# Altium schematic symbol library DZ_LIB.SchLib: 102 symbols
Pins are listed as number, name and electrical type; pins without a type are passive.

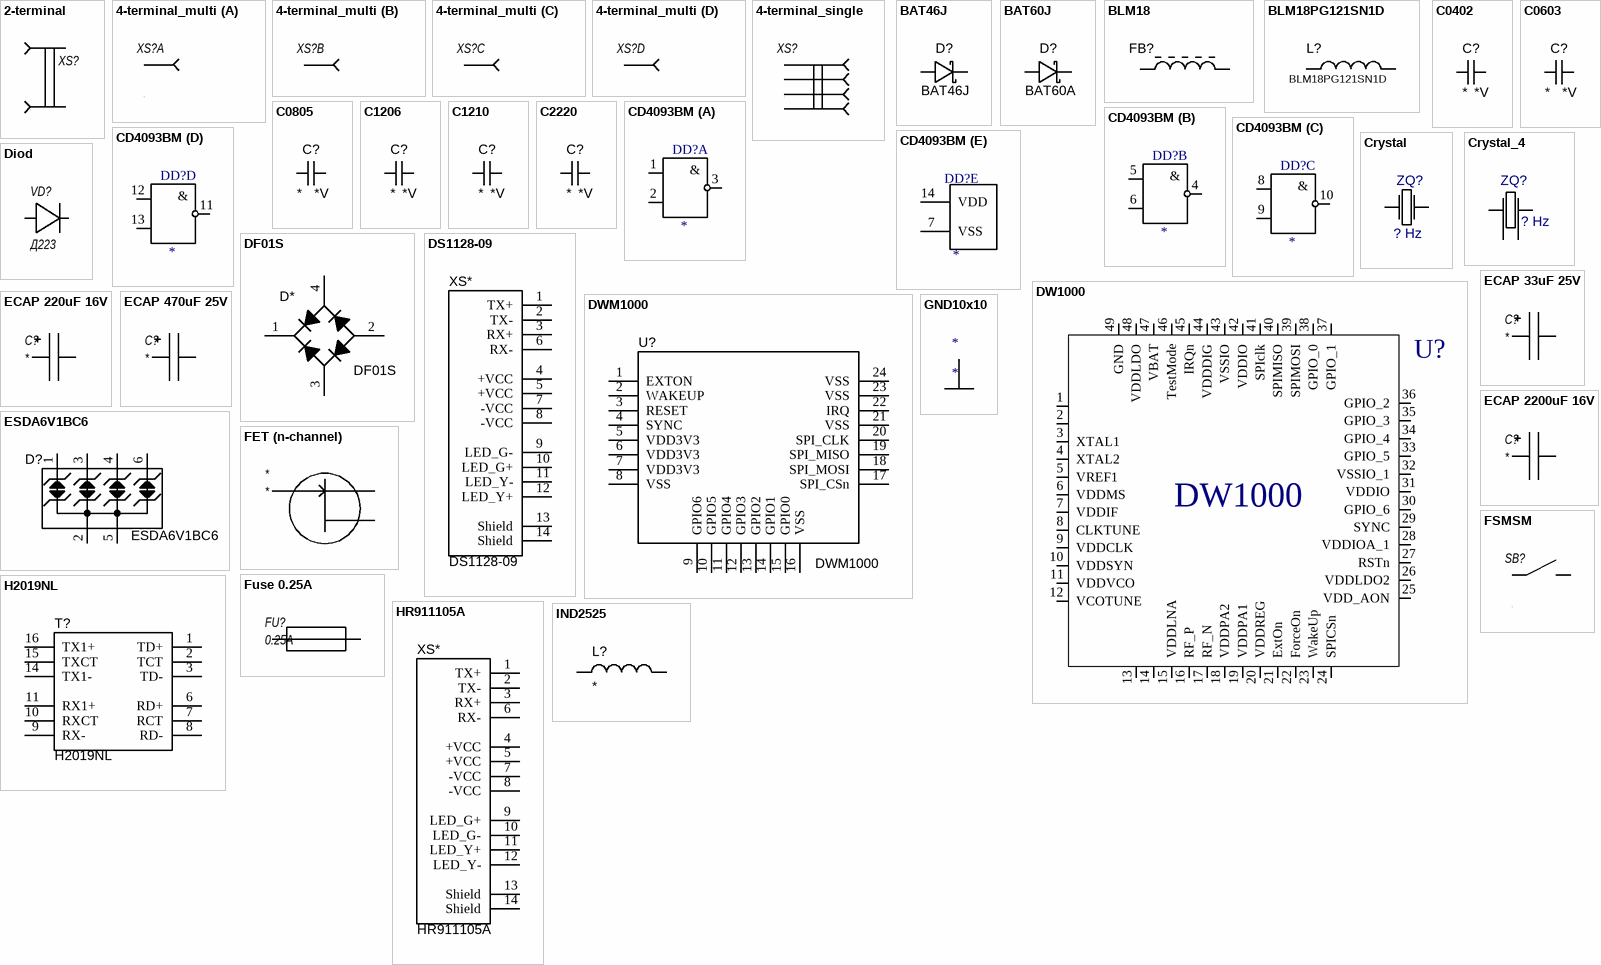
[diagram p0: symbols 2-terminal to IND2525]

## 2-terminal
designator XS?  (value not drawn)
footprint SCREW-5.0-2WAYS_V (Socket, Screw Terminal Block, 2-Leads, Pitch 5mm, 90 Degree Angle, Through-Hole)
pins: 1, 2

## 4-terminal_multi
designator XS?  (value not drawn)
footprint SCREW-5.0-4WAYS_V (Socket, Screw Terminal Block, 2-Leads, Pitch 5mm, 90 Degree Angle, Through-Hole)
part A pins: 1
part B pins: 2
part C pins: 3
part D pins: 4

## 4-terminal_single
designator XS?  (value not drawn)
footprint SCREW-5.0-4WAYS_V (Socket, Screw Terminal Block, 2-Leads, Pitch 5mm, 90 Degree Angle, Through-Hole)
pins: 1, 2, 3, 4

## BAT46J
designator D?
DIODE SCHOTTKY 100V 150MA SOD323
footprint SOD-323-2 (SMD, 2-Leads, Body 1.66x1.28mm)
pins: 1 A, 2 K

## BAT60J
designator D?, comment BAT60A
DIODE SCHOTTKY 10V 3A SOD323
footprint SOD-323-2 (SMD, 2-Leads, Body 1.66x1.28mm)
pins: 1 A, 2 K

## BLM18
designator FB?, comment BLM18A*  (value not drawn)
Ferrite Bead 0603; Resistance: * Ohm; DC Current Rating: * A
footprint BLM18 (MURATA, Chip Ferrite Bead, 2-Leads, Body 1.6x0.8mm, Height 0.95mm, Flow)
pins: 1, 2

## BLM18PG121SN1D
designator L?
FERRITE BEAD 120 OHM 0603 (Murata)
footprint SMD0603 (Chip Resistor, Body 1.6x0.8mm, IPC Medium Density)
pins: 1, 2

## C0402
designator C?  Voltage: *V  (hidden comment: *)
Model: *; Value: *
footprint C0402 (Chip Capacitor, 2-Leads, Body 1.05x0.55mm, IPC Medium Density)
pins: 1, 2

## C0603
designator C?  Voltage: *V  (hidden comment: *)
Model: *; Value: *
footprint C0603 (Chip Capacitor, Body 1.6x0.8mm, Height 1.0mm, IPC Medium Density)
pins: 1, 2

## C0805
designator C?  Voltage: *V  (hidden comment: *)
Model: *; Value: *
footprint C0805 (Chip Capacitor, 2-Leads, Body 2.00x1.25mm, IPC Medium Density)
pins: 1, 2

## C1206
designator C?  Voltage: *V  (hidden comment: *)
Model: *; Value: *
footprint C1206(3216) (Chip Capacitor, Body 3.2x1.6mm, Height 1.1mm, IPC Medium Density)
pins: 1, 2

## C1210
designator C?  Voltage: *V  (hidden comment: *)
Model: *; Value: *
footprint C1210 (Chip Capacitor, 2-Leads, Body 3.5x2.7mm, IPC Medium Density)
pins: 1, 2

## C2220
designator C?  Voltage: *V  (hidden comment: *)
Model: *; Value: *
footprint C2220 (Chip Capacitor, Body 5.7x5.0mm, Height 2.3mm, IPC Medium Density)
pins: 1, 2

## CD4093BM
designator DD?
TI-NAND-4-2IN-14
footprint D0014A_N (SOIC, 14-Leads, Body 8.75x4mm, Pitch 1.27mm, IPC Medium Density)
part A pins: 1, 2, 3
part B pins: 4, 5, 6
part C pins: 8, 9, 10
part D pins: 11, 12, 13
part E pins: 7 VSS (power), 14 VDD (power)
part A text: &
part B text: &
part C text: &
part D text: &

## Crystal
designator ZQ?, comment ? Hz
SMT-2 Crystal Rezonator
footprint DST210A
pins: 1 OSC1, 2 OSC2

## Crystal_4
designator ZQ?, comment ? Hz
SMT-4 Crystal Rezonator
footprint NX3225
pins: 1, 2, 3, 4

## DF01S
designator D*
BRIDGE RECT 1P 100V 1.5A 4SDIP
footprint SDIP-4 (SMD, 4-Leads, Body 8.28x6.35mm, Pitch 5.1mm)
pins: 1 K, 2 A, 3 C, 4 C

## Diod
designator VD?, comment Д223
pins: 1 A, 2 K

## DS1128-09
designator XS*
Single Port RJ45 Connector
footprint RJ45-AMPH (THD, 12-Leads, Body 16.51x15.75mm)
pins: 1 TX+, 2 TX-, 3 RX+, 4 +VCC, 5 +VCC, 6 RX-, 7 -VCC, 8 -VCC, 9 LED_G-, 10 LED_G+, 11 LED_Y-, 12 LED_Y+, 13 Shield, 14 Shield

## DW1000
designator U?, comment DW1000 IC  (value not drawn)
UWB DW1000; Part Number: DW1000_QFN; Manufacturer: Decawave Ltd.; Component Code: n/a; Component Type: Standard; Cost: *; Footprint: QFN_48; ComponentLink1Description: Datasheet Link
footprint QFN-48 (Footprint not found)
pins: 1, 2, 3 XTAL1, 4 XTAL2, 5 VREF1, 6 VDDMS, 7 VDDIF, 8 CLKTUNE, 9 VDDCLK, 10 VDDSYN, 11 VDDVCO, 12 VCOTUNE, 13, 14, 15 VDDLNA, 16 RF_P, 17 RF_N, 18 VDDPA2, 19 VDDPA1, 20 VDDREG, 21 ExtOn, 22 ForceOn, 23 WakeUp, 24 SPICSn, 25 VDD_AON, 26 VDDLDO2, 27 RSTn, 28 VDDIOA_1, 29 SYNC, 30 GPIO_6, 31 VDDIO, 32 VSSIO_1, 33 GPIO_5, 34 GPIO_4, 35 GPIO_3, 36 GPIO_2, 37 GPIO_1, 38 GPIO_0, 39 SPIMOSI, 40 SPIMISO, 41 SPIclk, 42 VDDIO, 43 VSSIO, 44 VDDDIG, 45 IRQn, 46 TestMode, 47 VBAT, 48 VDDLDO, 49 GND

## DWM1000
designator U?
MOD IEEE802.15.4-2011 UWB TXRX; Manufacturer: Decawave Limited; Frequency: 3.5GHz ~ 6.5GHz; Data Rate: 6.8Mbps; Serial Interfaces: SPI; Antenna Type: Integrated, Chip; Voltage - Supply: 2.8 V ~ 3.6 V; Current - Receiving: 64mA; Current - Transmitting: 31mA; Supplier 1: Digi-Key; Manufacturer Part Number: DWM1000; RoHS: RoHS Compliant; Category: RF/IF and RFID; Stock 1: 1028; Pricing 1: 1=32.16, 10=26.704, 100=24.24, 250=22.51296 (USD); Packaging: Cut Tape (CT); RF Family/Standard: 802.15.4; Protocol: -; Modulation: -; Power - Output: -; Sensitivity: -; Memory Size: -; Mounting Type: Surface Mount; Operating Temperature: -40°C ~ 85°C; Package / Case: Module; ComponentLink1URL: http://www.decawave.com/sites/default/files/product-pdf/dwm1000-product-brief.pdf; ComponentLink1Description: http://www.decawave.com/sites/default/files/product-pdf/dwm1000-product-brief.pdf; Supplier Part Number 1: 1479-1002-1-ND
footprint DWM1000
pins: 1 EXTON, 2 WAKEUP, 3 RESET, 4 SYNC, 5 VDD3V3, 6 VDD3V3, 7 VDD3V3, 8 VSS, 9 GPIO6, 10 GPIO5, 11 GPIO4, 12 GPIO3, 13 GPIO2, 14 GPIO1, 15 GPIO0, 16 VSS, 17 SPI_CSn, 18 SPI_MOSI, 19 SPI_MISO, 20 SPI_CLK, 21 VSS, 22 IRQ, 23 VSS, 24 VSS

## ECAP 33uF 25V
designator C?
footprint CAPPR55-250-1120X630X1220 (THD, 2-Leads, Dia 6.3mm, Body Length 11.2mm)
pins: 1, 2

## ECAP 220uF 16V
designator C?
footprint CAPPR55-250-1120X630X1220 (THD, 2-Leads, Dia 6.3mm, Body Length 11.2mm)
pins: 1, 2

## ECAP 470uF 25V
designator C?
footprint K50-35 (Jamicon 470uF 25V)
pins: 1, 2

## ECAP 2200uF 16V
designator C?
footprint CAPPR65-500-2000X1250X2200 (THD, 2-Leads, Dia 12.5mm, Body Length 20mm)
pins: 1, 2

## ESDA6V1BC6
designator D?
4-line ESD protection; Manuf_1: STM; Manuf_Part_1: ESDA5V3L; Ref St: 9179034; Provided: ST; ECCN_US/EU: EAR99/NEC; Distrib: ST; Order: ESDA5V3L; Ordered by: STM
footprint SOT-23-6 (SOT23, 6-Leads, Body 2.9x1.7mm, Pitch 0.95mm, Lead Span 2.8mm, IPC Medium Density)
pins: 1 IO1, 2 IO2, 3 GND, 4 IO3, 5 IO4, 6 NC

## FET (n-channel)
designator *
pins: 1 Gate, 2 Drain, 3 Source

## FSMSM
designator SB?
SMD Switch 2-Leads
footprint FSMSM-2 (Switch SMD, 2-Leads, Body 6x3.5mm, Pitch 9.19mm)
pins: 1, 2

## Fuse 0.25A
designator FU?, comment 0.25A
footprint Fuse
pins: 1, 2

## GND10x10
designator *
footprint GND10x10 (GND)
pins: 0

## H2019NL
designator T?
MODULE XFRMR VOIP SGL LAN 16SOIC; MF: Pulse Electronics; Package: SOIC-16 Pulse; Availability: Unavailable; MP: H2019NL; Price: None; SnapEDA_Link: https://www.snapeda.com/parts/H2019NL/Pulse%20Electronics%20Network/view-part/?ref=snap; Value: *
footprint H2019NL
pins: 1 TD+, 2 TCT, 3 TD-, 6 RD+, 7 RCT, 8 RD-, 9 RX-, 10 RXCT, 11 RX1+, 14 TX1-, 15 TXCT, 16 TX1+

## HR911105A
designator XS*
Single Port RJ45 Connector
footprint HR911105A (HANRUN RJ45)
pins: 1 TX+, 2 TX-, 3 RX+, 4 +VCC, 5 +VCC, 6 RX-, 7 -VCC, 8 -VCC, 9 LED_G+, 10 LED_G-, 11 LED_Y+, 12 LED_Y-, 13 Shield, 14 Shield

## IND2525
designator L?
2.2u 2525 3.3A; Model: LQH66SN2R2M; Value: *
footprint IND2525 (SMD, 2-Leads)
pins: 1, 2

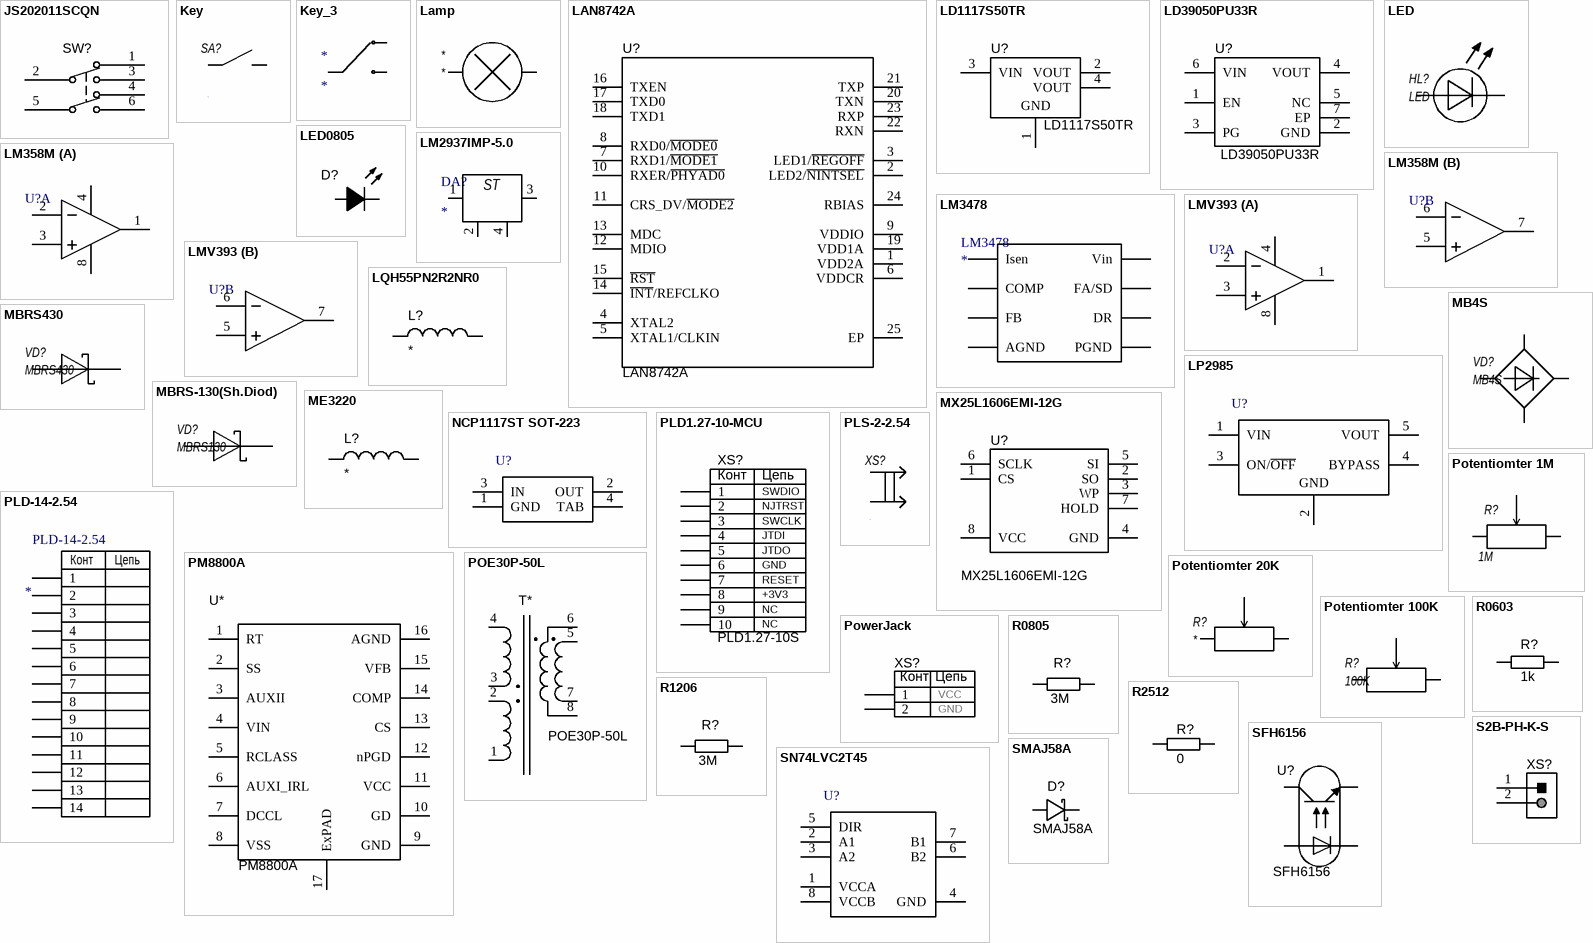
[diagram p1: symbols JS202011SCQN to SN74LVC2T45]

## JS202011SCQN
designator SW?  (value not drawn)
Switch Slide DPDT, 0.3 A, 6 V, -40 to 85 degC, 6-Pin SMD, RoHS, Tape and Reel; Manufacturer: C&K Components; Contact Rating @ Voltage: 0.3@6VDCA; COO: US; Maximum DC Voltage Rating: 6V; Minimum Insulation Resistance: 100MOhm; Actuator Color: Black; Body Orientation: Straight; Actuator Material: Nylon4/6; Dielectric Strength: 500VAC; Maximum Contact Resistance: 70mOhm; Actuator Style: TopSlide; Electrical Life: 15000Cycles; Seal Location: N/A; Base Material: N/A; Mechanical Life: N/A; Switch Configuration: N/A; HTS: 8536509050; Contact Material: CopperAlloy; Supplier Standard Pack: 5,000; Manufacturer URL: http://www.ckswitches.com; Supplier: C&KComponents; Datasheet URL: http://datasheet.octopart.com/JS202011SCQN-C%26K-Components-datasheet-62100994.pdf; Housing Material: Nylon4/6; Product Weight: N/A; Dimension: 9x7.5x5.5mm; Maximum AC Voltage Rating: N/A; ECCN: EAR99; Contact Plating: Silver; Pole Throw Configuration: DPDT; Packaging: TapeandReel; Part No: JS202011SCQN; Datasheet Version: Sep-15; Seal Description: N/A; RoHS: Yes; Mounting: SurfaceMount,GullWing; Family: JS; Type: Sub-Miniature; Operating Temperature: -40to85C
footprint JS202011SCQN (Switch, SMD, 6-Leads, Body 9x3.6mm, Pitch 2.5mm)
pins: 1, 2 COM, 3, 4, 5 COM, 6

## Key
designator SA?, comment Вкл.  (value not drawn)
footprint SMTC-TSW-102-07-S-S (Header, 2-Leads, Body 5.08x2.54mm, Pitch 2.54mm)
pins: 1, 2

## Key_3
designator *
footprint SMTC-TSW-103-07-X-S (.025 SQ Post Terminal Strip Assembly, 1x3 Pins, Vertical, 2.54mm Pitch, Male)
pins: 1, 2, 3

## Lamp
designator *
pins: 1, 2

## LAN8742A
designator U?
RMII 10/100 Eth Transceiver Microchip
footprint QFN-24 (QFN, 24-Leads, Body 4.1x4.1mm, Pitch 0.5mm, Thermal Pad 2.50x2.50mm)
pins: 1 VDD2A "+3.3V Analog Port Power to Channel 2 and the internal regulator.", 2 LED2/~{NINTSEL}, 3 LED1/~{REGOFF}, 4 XTAL2 "External crystal output", 5 XTAL1/CLKIN, 6 VDDCR "Supplied by the on-chip regulator unless configured for regulator off mode via the REGOFF configuration strap.", 7 RXD1/~{MODE1}, 8 RXD0/~{MODE0}, 9 VDDIO "+1.6V to +3.6V variable I/O power", 10 RXER/~{PHYAD0}, 11 CRS_DV/~{MODE2}, 12 MDIO "Serial Management Interface data input/output", 13 MDC "Serial Management Interface clock", 14 ~{INT}/REFCLKO, 15 ~{RST} "System reset. This signal is active low.", 16 TXEN "Indicates that valid transmission data is presenton TXD[1:0].", 17 TXD0 "The MAC transmits data to the transceiver usingthis signal.", 18 TXD1 "The MAC transmits data to the transceiver usingthis signal.", 19 VDD1A "+3.3V Analog Port Power to Channel 1", 20 TXN "Transmit/Receive Negative Channel 1", 21 TXP "Transmit/Receive Positive Channel 1", 22 RXN "Transmit/Receive Negative Channel 2", 23 RXP "Transmit/Receive Positive Channel 2", 24 RBIAS "This pin requires connection of a 12.1k ohm (1%) resistor to ground.", 25 EP "Exposed pad (VSS) on bottom of package must be connected to ground"

## LD1117S50TR
designator U?
Volt Reg 5V SOT223
footprint SOT-223 (SOT223, 4-Leads, Body 6.5x3.5mm, Pitch 2.3mm, Lead Span 7mm, IPC Medium Density)
pins: 1 GND (power), 2 VOUT (power), 3 VIN (power), 4 VOUT (power)

## LD39050PU33R
designator U?
Volt-Reg 3.3 V (15V max)
footprint DFN6D_N (SON, 6-Leads, Body 3x3mm, Pitch 0.95mm, Thermal Pad 2.4x1.65mm, IPC Medium Density)
pins: 1 EN, 2 GND (power), 3 PG (oc), 4 VOUT (power), 5 NC, 6 VIN (power), 7 EP (power)

## LED
designator HL?
footprint Type 5mm (THT, LED-5mm, 2pin- Body 5.8mm)
pins: 1 K, 2 A

## LED0805
designator D?
LED SMD 0805 K1A2
footprint LED0805 (Chip LED, 2-Leads, Body 2.0x1.3mm, IPC Medium Density)
pins: 1 K, 2 A

## LM358M
designator U?
footprint SO-8_N (SOIC, 8-Leads, Body 4.9x3.9mm, Pitch 1.27mm, IPC Medium Density)
part A pins: 1 OUTA, 2 INA-, 3 INA+, 4 GND, 8 VCC
part B pins: 5 INB+, 6 INB-, 7 OUTB

## LM2937IMP-5.0
designator DA?
IC REG LIN 3.3V 400MA SOT223-4
footprint DCY0004A_N(LM2937) (SOT223, 4-Leads, Body 6.7x3.7mm, Pitch 2.3mm, IPC Medium Density)
pins: 1, 2, 3, 4 GND
1 alternate drawing of the same symbol
text: ST

## LM3478
designator LM3478
footprint VSSOP-8 (VSSOP, 8-Leads, Body 3x3mm, Pitch 0.65mm)
pins: 1 Isen, 2 COMP, 3 FB, 4 AGND, 5 PGND, 6 DR, 7 FA/SD, 8 Vin

## LMV393
designator U?
footprint SOIC-8 (SOIC, 8-Leads, Body 4.9x3.9mm, Pitch 1.27mm, IPC Medium Density)
part A pins: 1 OUTA, 2 INA-, 3 INA+, 4 GND, 8 VCC
part B pins: 5 INB+, 6 INB-, 7 OUTB

## LP2985
designator U?
footprint SOT23-5 (SOT23, 5-Leads, Body 3.05x1.75mm, Pitch 0.95mm, IPC Medium Density)
pins: 1 VIN (power), 2 GND (power), 3 ON/~{OFF}, 4 BYPASS, 5 VOUT (power)

## LQH55PN2R2NR0
designator L?
FIXED IND 2.2UH 2.5A 31 MOHM SMD; Model: LQH55PN2R2NR0; Value: *
footprint IND2220 (IND SMD)
pins: 1, 2

## MB4S
designator VD?
footprint TO-269AA
pins: 1 IN1, 2 IN2, 3 OUT+, 4 OUT-

## MBRS430
designator VD?
footprint SMC-2 (Molded, 2-Leads, Body 6.86x5.84mm)
pins: 1 K, 2 A

## MBRS-130(Sh.Diod)
designator VD?, comment MBRS130
footprint SMB-2 (Molded, 2-Leads, Body 4.6x3.95mm)
pins: 1 K, 2 A

## ME3220
designator L?
SMT Power Inductor; Model: ME3220-562M; Value: *
footprint ME3220
pins: 1, 2

## MX25L1606EMI-12G
designator U?
FLASH 16M SPI 86MHZ 16SOP
footprint SOP-8 (SOP, 8-Leads, Body 2.4x2.1mm, Pitch 0.5mm, IPC Medium Density)
pins: 1 CS "Chip Select", 2 SO "Serial Data Output (for 1xI/O)/Serial Data Input & Output (for 2xI/O mode and 4xI/O mode)", 3 WP "Write protection Active Low or Serial Data Input & Output (for 4xI/O mode)", 4 GND "Ground", 5 SI "Serial Data Input (for 1xI/O)/ Serial Data Input & Output (for 2xI/O mode and 4xI/O mode)", 6 SCLK "Clock Input", 7 HOLD "To pause the device without deselecting the device or Serial data Input/Output for 4 x I/O mode", 8 VCC "+ 3.0V Power Supply"

## NCP1117ST SOT-223
designator U?
IC REG LINEAR POS ADJ 1A SOT223
footprint SOT-223_N (SOT223, 4-Leads, Body 3.7x6.7mm, Pitch 2.3mm, IPC Medium Density)
pins: 1 GND (power), 2 OUT, 3 IN, 4 TAB (power)

## PLD1.27-10-MCU
designator XS?, comment PLD1.27-10S
footprint PLD1.27-10S (Socket Header, Pitch 1.27 mm, SMT, Vertical, dual row, 10p)
pins: 1, 2, 3, 4, 5, 6, 7, 8, 9, 10
text: Конт; Цепь; SWDIO; NJTRST; SWCLK; JTDI; JTDO; GND; RESET; +3V3; NC

## PLD-14-2.54
designator PLD-14-2.54
footprint SMTC-TSW-107-06-X-D (.025 SQ Post Terminal Strip Assembly, 2x7 Pins, Vertical, 2.54mm Pitch, Male)
pins: 1, 2, 3, 4, 5, 6, 7, 8, 9, 10, 11, 12, 13, 14
text: Конт; Цепь

## PLS-2-2.54
designator XS?  (value not drawn)
footprint SMTC-TSW-102-07-S-S (Header, 2-Leads, Body 5.08x2.54mm, Pitch 2.54mm)
pins: 1, 2

## PM8800A
designator U*
footprint HTSSOP16 (TSOP, 16-Leads, Body 5x4.4mm, Pitch 0.65mm, Thermal Pad 3x3mm, IPC Medium Density)
pins: 1 RT, 2 SS, 3 AUXII, 4 VIN, 5 RCLASS, 6 AUXI_IRL, 7 DCCL, 8 VSS, 9 GND, 10 GD, 11 VCC, 12 nPGD, 13 CS, 14 COMP, 15 VFB, 16 AGND, 17 ExPAD

## POE30P-50L
designator T*
PoE transformer, SMT
footprint POE30P
pins: 1, 2, 3, 4, 5, 6, 7, 8

## Potentiomter 1M
designator R?, comment 1M
Value: 1M
footprint BOUR-3296W (THD, 3-Leads, Body 9.53x4.83mm, Pitch 2.54mm)
pins: 1, 2, 3

## Potentiomter 20K
designator R?
Value: 20K
footprint BOUR-3296W (THD, 3-Leads, Body 9.53x4.83mm, Pitch 2.54mm)
pins: 1, 2, 3

## Potentiomter 100K
designator R?, comment 100K
Value: 100K
footprint BOUR-3296W (THD, 3-Leads, Body 9.53x4.83mm, Pitch 2.54mm)
pins: 1, 2, 3

## PowerJack
designator XS?  (value not drawn)
footprint PowerJack (Power Jack, 3-Leads, Body 14.5x9mm)
pins: 1, 2, 3
text: Конт; Цепь; VCC; GND

## R0603
designator R?  value 1k
footprint SMD0603 (Chip Resistor, Body 1.6x0.8mm, IPC Medium Density)
pins: 1, 2

## R0805
designator R?  value 3M
footprint SMD0805 (Chip Resistor, Body 2.0x1.3mm, IPC Low Density)
pins: 1, 2

## R1206
designator R?  value 3M
footprint R1206(3216) (Chip Resistor, Body 3.2x1.6mm, IPC Medium Density)
pins: 1, 2

## R2512
designator R?  value 0
footprint R2512(6432) (Chip Resistor, Body 6.4x3.2mm, IPC Medium Density)
pins: 1, 2

## S2B-PH-K-S
designator XS?  (value not drawn)
Male Header, Pitch 2 mm, 1 x 2 Position, Height 4.8 mm, Tail Length 3.4 mm, -25 to 85 degC, RoHS, Bulk; Case\Package: Radial; Tolerance: 20%; Capacitance: 10 uF; Voltage Rating (DC): 50 V; Packaging: Bulk; ComponentLink1URL: http://www.jst-mfg.com/product/pdf/eng/ePH.pdf; Radiation Hardening: No; Height: 11 mm; Package Quantity: 200; PackageDescription: Male Header, Pitch 2 mm, 1 x 2 Position, Height 4.8 mm, Tail Length 3.4 mm; PackageReference: S2B-PH-K-S; Diameter: 5 mm; Pins: 2; Mount: Through Hole; Max Operating Temperature: 85 degC; Min Operating Temperature: -40 degC; ComponentLink1Description: Datasheet; DatasheetVersion: Dec-12; Length: 11 mm; Lead Pitch: 2 mm; REACH SVHC: No SVHC; Voltage Rating: 50 V; RoHSCompliant: true
footprint S2B-PH-K-S (THD, 2-Leads, Body 7.6x5.9mm, Pitch 2mm)
pins: 1, 2

## SFH6156
designator U?
footprint SFH6156(VISH) (SMD, 4-Leads, Body 6.645x4.69mm, Pitch 2.54mm)
pins: 1 A, 2 C, 3 E, 4 C

## SMAJ58A
designator D?
TVS DIODE 58V 93.6V DO214AC
footprint DO-214AC-2_N (DO-214AC, 2-Leads, Body 4.5x2.79mm, IPC Medium Density)
pins: 1 A, 2 K

## SN74LVC2T45
designator U?
IC TRNSLTR BIDIRECTIONAL SM8
pins: 1 VCCA (power) "Supply Voltage A", 2 A1 "Output or input depending on state of DIR. Output level depends on VCCA", 3 A2 "Output or input depending on state of DIR. Output level depends on VCCA", 4 GND (power) "Ground", 5 DIR "Direction Pin, Connect to GND or to VCCA", 6 B2 "Output or input depending on state of DIR. Output level depends on VCCB.", 7 B1 "Output or input depending on state of DIR. Output level depends on VCCB.", 8 VCCB (power) "Supply Voltage B"

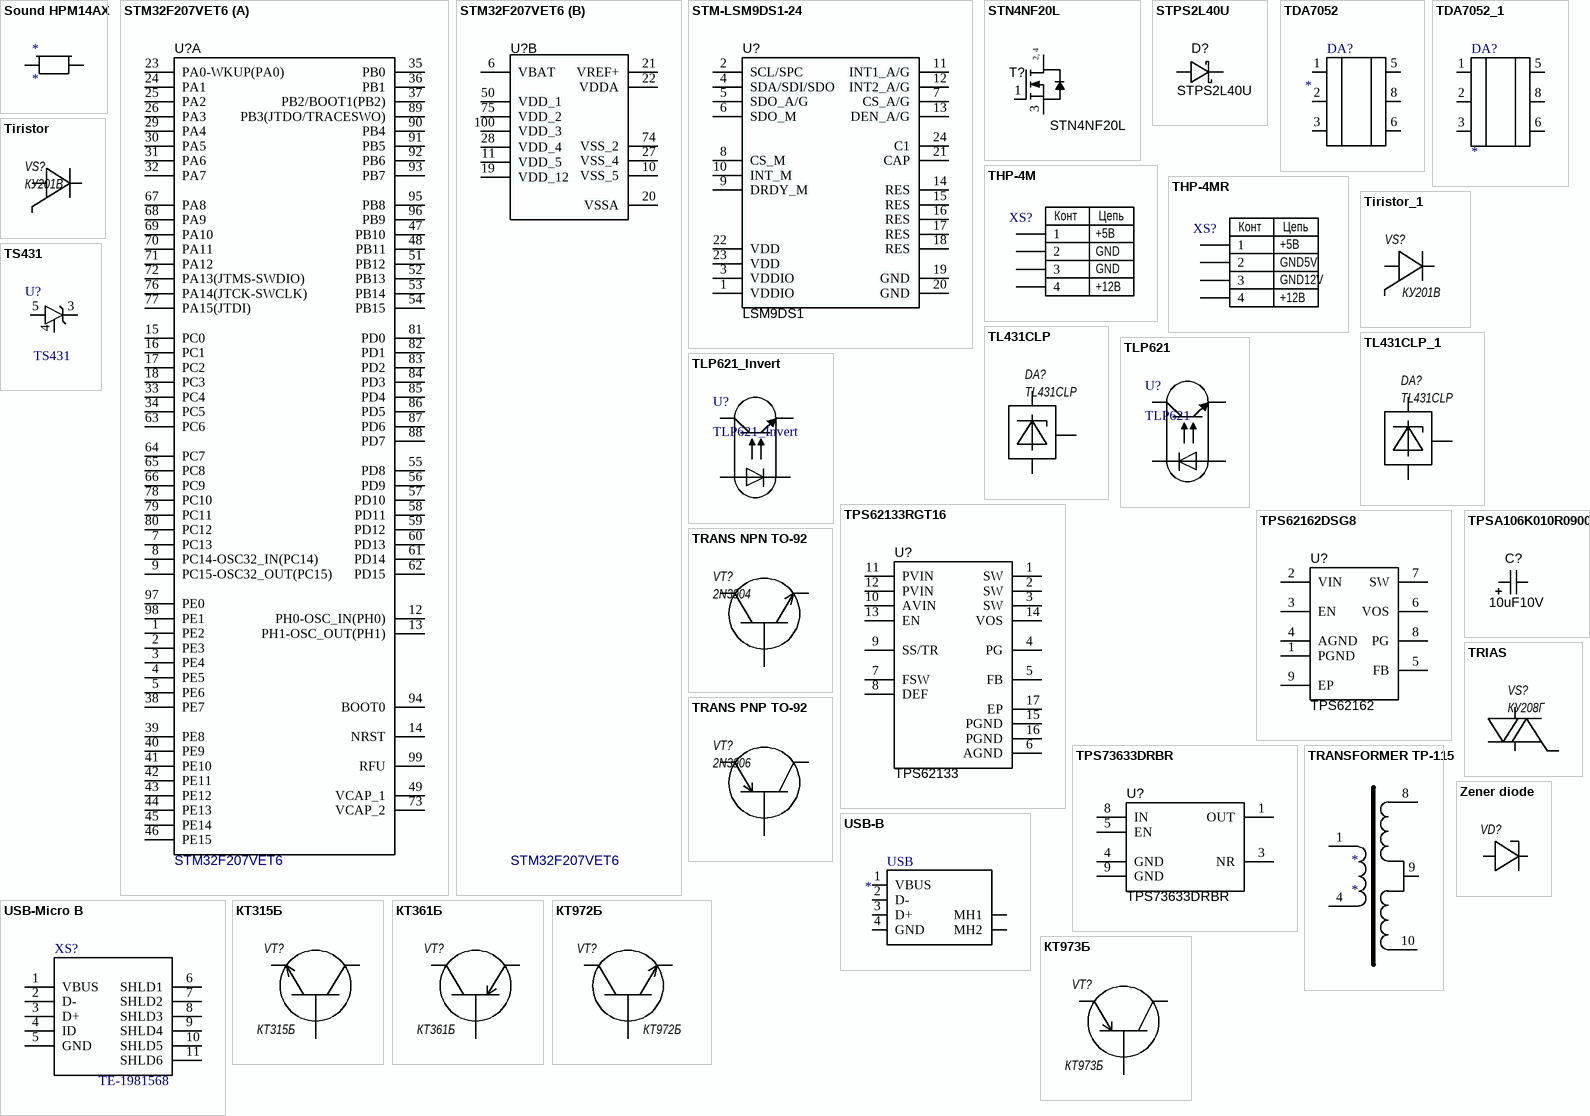
[diagram p2: symbols Sound HPM14AX to КТ973Б]

## Sound HPM14AX
designator *
footprint HPM14AX
pins: 1, 2

## STM32F207VET6
designator U?
footprint STM-LQFP100_V (Thin QFP, 100-Leads, Body 14x14mm, Pitch 0.5mm, ST Recommended)
part A pins: 1 PE2 "PE2/TRACECLK/FSMC_A23/ETH_MII_TXD3/EVENTOUT", 2 PE3 "PE3/TRACED0/FSMC_A19/EVENTOUT", 3 PE4 "PE4/TRACED1/FSMC_A20/DCMI_D4/EVENTOUT", 4 PE5 "PE5/TRACED2/FSMC_A21/TIM9_CH1/DCMI_D6/EVENTOUT", 5 PE6 "PE6/TRACED3/FSMC_A22/TIM9_CH2/DCMI_D7/EVENTOUT", 7 PC13 "PC13/EVENTOUT/RTC_AF1", 8 PC14-OSC32_IN(PC14) "PC14-OSC32_IN/PC14/EVENTOUT/OSC32_IN", 9 PC15-OSC32_OUT(PC15) "PC15-OSC32_OUT/PC15/EVENTOUT/OSC32_OUT", 12 PH0-OSC_IN(PH0) "PH0-OSC_IN(PH0)/PH0/EVENTOUT/OSC_IN", 13 PH1-OSC_OUT(PH1) "PH1-OSC_OUT(PH1)/PH1/EVENTOUT/OSC_OUT", 14 NRST, 15 PC0 "PC0/OTG_HS_ULPI_STP/EVENTOUT/ADC123_IN10", 16 PC1 "PC1/ETH_MDC/EVENTOUT/ADC123_IN11", 17 PC2 "PC2/SPI2_MISO/OTG_HS_ULPI_DIR/ETH_MII_TXD2/EVENTOUT/ADC123_IN12", 18 PC3 "PC3/SPI2_MOSI/I2S2_SD/OTG_HS_ULPI_NXT/ETH_MII_TX_CLK/EVENTOUT/ADC123_IN13", 23 PA0-WKUP(PA0) "PA0-WKUP(PA0)/USART2_CTS/UART4_TX/ETH_MII_CRS/TIM2_CH1_ETR/TIM5_CH1/TIM8_ETR/EVENTOUT/ADC123_IN0/WKUP", 24 PA1 "PA1/USART2_RTS/UART4_RX/ETH_RMII_REF_CLK/ETH_MII_RX_CLK/TIM5_CH2/TIM2_CH2/EVENTOUT/ADC123_IN1", 25 PA2 "PA2/USART2_TX/TIM5_CH3/TIM9_CH1/TIM2_CH3/ETH_MDIO/EVENTOUT/ADC123_IN2", 26 PA3 "PA3/USART2_RX/TIM5_CH4/TIM9_CH2/TIM2_CH4/OTG_HS_ULPI_D0/ETH_MII_COL/EVENTOUT/ADC123_IN3", 29 PA4 "PA4/SPI1_NSS/SPI3_NSS/USART2_CK/DCMI_HSYNC/OTG_HS_SOF/I2S3_WS/EVENTOUT/ADC12_IN4/DAC_OUT1", 30 PA5 "PA5/SPI1_SCK/OTG_HS_ULPI_CK/TIM2_CH1_ETR/TIM8_CH1N/EVENTOUT/ADC12_IN5/DAC_OUT2", 31 PA6 "PA6/SPI1_MISO/TIM8_BKIN/TIM13_CH1/DCMI_PIXCLK/TIM3_CH1/TIM1_BKIN/EVENTOUT/ADC12_IN6", 32 PA7 "PA7/SPI1_MOSI/TIM8_CH1N/TIM14_CH1/TIM3_CH2/ETH_MII_RX_DV/TIM1_CH1N/RMII_CRS_DV/EVENTOUT/ADC12_IN7", 33 PC4 "PC4/ETH_RMII_RX_D0/ETH_MII_RX_D0/EVENTOUT/ADC12_IN14", 34 PC5 "PC5/ETH_RMII_RX_D1/ETH_MII_RX_D1/EVENTOUT/ADC12_IN15", 35 PB0 "PB0/TIM3_CH3/TIM8_CH2N/OTG_HS_ULPI_D1/ETH_MII_RXD2/TIM1_CH2N/EVENTOUT/ADC12_IN8", 36 PB1 "PB1/TIM3_CH4/TIM8_CH3N/OTG_HS_ULPI_D2/ETH_MII_RXD3/TIM1_CH3N/EVENTOUT/ADC12_IN9", 37 PB2/BOOT1(PB2) "PB2/PB2-BOOT1/EVENTOUT", 38 PE7 "PE7/FSMC_D4/TIM1_ETR/EVENTOUT", 39 PE8 "PE8/FSMC_D5/TIM1_CH1N/EVENTOUT", 40 PE9 "PE9/FSMC_D6/TIM1_CH1/EVENTOUT", 41 PE10 "PE10/FSMC_D7/TIM1_CH2N/EVENTOUT", 42 PE11 "PE11/FSMC_D8/TIM1_CH2/EVENTOUT", 43 PE12 "PE12/FSMC_D9/TIM1_CH3N/EVENTOUT", 44 PE13 "PE13/FSMC_D10/TIM1_CH3/EVENTOUT", 45 PE14 "PE14/FSMC_D11/TIM1_CH4/EVENTOUT", 46 PE15 "PE15/FSMC_D12/TIM1_BKIN/EVENTOUT", 47 PB10 "PB10/SPI2_SCK/I2S2_SCK/I2C2_SCL/USART3_TX/OTG_HS_ULPI_D3/ETH_MII_RX_ER/TIM2_CH3/EVENTOUT", 48 PB11 "PB11/I2C2_SDA/USART3_RX/OTG_HS_ULPI_D4/ETH_RMII_TX_EN/ETH_MII_TX_EN/TIM2_CH4/EVENTOUT", 49 VCAP_1, 51 PB12 "PB12/SPI2_NSS/I2S2_WS/I2C2_SMBA/USART3_CK/TIM1_BKIN/CAN2_RX/OTG_HS_ULPI_D5/ETH_RMII_TXD0/ETH_MII_TXD0/OTG_HS_ID/EVENTOUT", 52 PB13 "PB13/SPI2_SCK/I2S2_SCK/USART3_CTS/TIM1_CH1N/CAN2_TX/OTG_HS_ULPI_D6/ETH_RMII_TXD1/ETH_MII_TXD1/EVENTOUT/OTG_HS_VBUS", 53 PB14 "PB14/SPI2_MISO/TIM1_CH2N/TIM12_CH1/OTG_HS_DM/USART3_RTS/TIM8_CH2N/EVENTOUT", 54 PB15 "PB15/SPI2_MOSI/I2S2_SD/TIM1_CH3N/TIM8_CH3N/TIM12_CH2/OTG_HS_DP/RTC_50Hz/EVENTOUT", 55 PD8 "PD8/FSMC_D13/USART3_TX/EVENTOUT", 56 PD9 "PD9/FSMC_D14/USART3_RX/EVENTOUT", 57 PD10 "PD10/FSMC_D15/USART3_CK/EVENTOUT", 58 PD11 "PD11/FSMC_A16/USART3_CTS/EVENTOUT", 59 PD12 "PD12/FSMC_A17/TIM4_CH1/USART3_RTS/EVENTOUT", 60 PD13 "PD13/FSMC_A18/TIM4_CH2/EVENTOUT", 61 PD14 "PD14/FSMC_D0/TIM4_CH3/EVENTOUT", 62 PD15 "PD15/FSMC_D1/TIM4_CH4/EVENTOUT", 63 PC6 "PC6/I2S2_MCK/TIM8_CH1/SDIO_D6/USART6_TX/DCMI_D0/TIM3_CH1/EVENTOUT", 64 PC7 "PC7/I2S3_MCK/TIM8_CH2/SDIO_D7/USART6_RX/DCMI_D1/TIM3_CH2/EVENTOUT", 65 PC8 "PC8/TIM8_CH3/SDIO_D0/TIM3_CH3/USART6_CK/DCMI_D2/EVENTOUT", 66 PC9 "PC9/I2S2_CKIN/I2S3_CKIN/MCO2/TIM8_CH4/SDIO_D1/I2C3_SDA/DCMI_D3/TIM3_CH4/EVENTOUT", 67 PA8 "PA8/MCO1/USART1_CK/TIM1_CH1/I2C3_SCL/OTG_FS_SOF/EVENTOUT", 68 PA9 "PA9/USART1_TX/TIM1_CH2/I2C3_SMBA/DCMI_D0/EVENTOUT/OTG_FS_VBUS", 69 PA10 "PA10/USART1_RX/TIM1_CH3/OTG_FS_ID/DCMI_D1/EVENTOUT", 70 PA11 "PA11/USART1_CTS/CAN1_RX/TIM1_CH4/OTG_FS_DM/EVENTOUT", 71 PA12 "PA12/USART1_RTS/CAN1_TX/TIM1_ETR/OTG_FS_DP/EVENTOUT", 72 PA13(JTMS-SWDIO) "PA13/JTMS-SWDIO/EVENTOUT", 73 VCAP_2, 76 PA14(JTCK-SWCLK) "PA14/JTCK-SWCLK/EVENTOUT", 77 PA15(JTDI) "PA15/JTDI/SPI3_NSS/I2S3_WS/TIM2_CH1_ETR/SPI1_NSS/EVENTOUT", 78 PC10 "PC10/SPI3_SCK/I2S3_SCK/UART4_TX/SDIO_D2/DCMI_D8/USART3_TX/EVENTOUT", 79 PC11 "PC11/UART4_RX/SPI3_MISO/SDIO_D3/DCMI_D4/USART3_RX/EVENTOUT", 80 PC12 "PC12/UART5_TX/SDIO_CK/DCMI_D9/SPI3_MOSI/I2S3_SD/USART3_CK/EVENTOUT", 81 PD0 "PD0/FSMC_D2/CAN1_RX/EVENTOUT", 82 PD1 "PD1/FSMC_D3/CAN1_TX/EVENTOUT", 83 PD2 "PD2/TIM3_ETR/UART5_RX/SDIO_CMD/DCMI_D11/EVENTOUT", 84 PD3 "PD3/FSMC_CLK/USART2_CTS/EVENTOUT", 85 PD4 "PD4/FSMC_NOE/USART2_RTS/EVENTOUT", 86 PD5 "PD5/FSMC_NWE/USART2_TX/EVENTOUT", 87 PD6 "PD6/FSMC_NWAIT/USART2_RX/EVENTOUT", 88 PD7 "PD7/USART2_CK/FSMC_NE1/FSMC_NCE2/EVENTOUT", 89 PB3(JTDO/TRACESWO) "PB3/JTDO/TRACESWO/SPI3_SCK/I2S3_SCK/TIM2_CH2/SPI1_SCK/EVENTOUT", 90 PB4 "PB4/NJTRST/SPI3_MISO/TIM3_CH1/SPI1_MISO/EVENTOUT", 91 PB5 "PB5/I2C1_SMBA/CAN2_RX/OTG_HS_ULPI_D7/ETH_PPS_OUT/TIM3_CH2/SPI1_MOSI/SPI3_MOSI/DCMI_D10/I2S3_SD/EVENTOUT", 92 PB6 "PB6/I2C1_SCL/TIM4_CH1/CAN2_TX/DCMI_D5/USART1_TX/EVENTOUT", 93 PB7 "PB7/I2C1_SDA/FSMC_NL/DCMI_VSYNC/USART1_RX/TIM4_CH2/EVENTOUT", 94 BOOT0 "BOOT0/VPP", 95 PB8 "PB8/TIM4_CH3/SDIO_D4/TIM10_CH1/DCMI_D6/ETH_MII_TXD3/I2C1_SCL/CAN1_RX/EVENTOUT", 96 PB9 "PB9/SPI2_NSS/I2S2_WS/TIM4_CH4/TIM11_CH1/SDIO_D5/DCMI_D7/I2C1_SDA/CAN1_TX/EVENTOUT", 97 PE0 "PE0/TIM4_ETR/FSMC_NBL0/DCMI_D2/EVENTOUT", 98 PE1 "PE1/FSMC_NBL1/DCMI_D3/EVENTOUT", 99 RFU
part B pins: 6 VBAT (power), 10 VSS_5 (power), 11 VDD_5 (power), 19 VDD_12 (power), 20 VSSA (power), 21 VREF+ (power), 22 VDDA (power), 27 VSS_4 (power), 28 VDD_4 (power), 50 VDD_1 (power), 74 VSS_2 (power), 75 VDD_2 (power), 100 VDD_3 (power)

## STM-LSM9DS1-24
designator U?, comment LSM9DS1
IMU ACCEL/GYRO/MAG I2C/SPI 24LGA
footprint STM-LGA-24_3500X3000X1000 (LGA, 24-Leads, Body 3.65x3.15mm, Pitch 0.43mm)
pins: 1 VDDIO "Power supply for I/O pins", 2 SCL/SPC, 3 VDDIO "Power supply for I/O pins", 4 SDA/SDI/SDO, 5 SDO_A/G, 6 SDO_M "SPI serial data output (SDO) for the magnetometer. I2C least significant bit of the device address (SA0) for the magnetometer", 7 CS_A/G, 8 CS_M "SPI enable. I2C/SPI mode selection for the magnetometer (1: SPI idle mode / I2C communication enabled; 0: SPI communication mode / I2C disabled)", 9 DRDY_M "Magnetic sensor data ready", 10 INT_M "Magnetic sensor interrupt", 11 INT1_A/G, 12 INT2_A/G, 13 DEN_A/G, 14 RES "Reserved. Connected to GND.", 15 RES "Reserved. Connected to GND.", 16 RES "Reserved. Connected to GND.", 17 RES "Reserved. Connected to GND.", 18 RES "Reserved. Connected to GND.", 19 GND "0 V supply", 20 GND "0 V supply", 21 CAP "Connected to GND with ceramic capacitor", 22 VDD "Power supply", 23 VDD "Power supply", 24 C1 "Capacitor connection (C1 = 100 nF)"

## STN4NF20L
designator T?
MOSFET N-CH 200V 1A
footprint SOT-223 (SOT223, 4-Leads, Body 6.5x3.5mm, Pitch 2.3mm, Lead Span 7mm, IPC Medium Density)
pins: 1 G, 2 D, 3 S, 4 D
text: 2, 4

## STPS2L40U
designator D?
DIODE SCHOTTKY 40V 2A SMB
footprint SMB-2 (Molded, 2-Leads, Body 4.6x3.95mm)
pins: 1 A, 2 K

## TDA7052
designator DA?
footprint SO-8_N (SOIC, 8-Leads, Body 4.9x3.9mm, Pitch 1.27mm, IPC Medium Density)
pins: 1 VDD, 2 +IN, 3 Signal GND, 5 +OUT, 6 Power GND, 8 -OUT

## TDA7052_1
designator DA?
footprint SO-8_N (SOIC, 8-Leads, Body 4.9x3.9mm, Pitch 1.27mm, IPC Medium Density)
pins: 1 VDD, 2 +IN, 3 Signal GND, 5 +OUT, 6 Power GND, 8 -OUT

## THP-4M
designator XS?, comment THP  (value not drawn)
footprint THP-4M
pins: 1, 2, 3, 4
text: Конт; Цепь; +5В; GND; +12В

## THP-4MR
designator XS?, comment THP  (value not drawn)
footprint THP-4MR
pins: 1, 2, 3, 4
text: Конт; Цепь; +5В; GND5V; GND12V; +12В

## Tiristor
designator VS?, comment КУ201В
pins: 1 A, 2 K, 3 IN

## Tiristor_1
designator VS?, comment КУ201В
pins: 1 A, 2 K, 3 IN

## TL431CLP
designator DA?
footprint LP0003A (TO, Flat Index; 3 In-Line, Formed Axial Leads; Body Dia. 4.8mm; Leads 0.56 x 0.41 mm (max))
pins: 1 C, 2 A, 3 REF

## TL431CLP_1
designator DA?, comment TL431CLP
footprint LP0003A (TO, Flat Index; 3 In-Line, Formed Axial Leads; Body Dia. 4.8mm; Leads 0.56 x 0.41 mm (max))
pins: 1 C, 2 A, 3 REF

## TLP621
designator U?
footprint PNSC-DIP4_V (DIP, 4-Leads, Body 6.45x4.83mm, Pitch2.54 mm)
pins: 1 A, 2 C, 3 E, 4 C

## TLP621_Invert
designator U?
footprint PNSC-DIP4_V (DIP, 4-Leads, Body 6.45x4.83mm, Pitch2.54 mm)
pins: 1 A, 2 C, 3 E, 4 C

## TPS62133RGT16
designator U?, comment TPS62133
IC Buck 2A TI Fix 5V
footprint QFN-16 (QFN, 16-Leads, Body 3x3mm, Pitch 0.5mm, Thermal Pad 1.65x1.65mm)
pins: 1 SW "Switch node, which is connected to the internal MOSFET switches. Connect inductor between SW and output capacitor.", 2 SW "Switch node, which is connected to the internal MOSFET switches. Connect inductor between SW and output capacitor.", 3 SW "Switch node, which is connected to the internal MOSFET switches. Connect inductor between SW and output capacitor.", 4 PG "Output power-good (High = VOUT ready, Low = VOUT below nominal regulation); open-drain (requires pullup resistor; goes high-impedance when device is switched off)", 5 FB "Voltage feedback of adjustable version. Connect resistive voltage divider to this pin. Its recommended to connect FB to AGND on fixed output-voltage versions for improved thermal performance.", 6 AGND "Analog ground", 7 FSW "Switching frequency select (Low  2.5 MHz, High  1.25 MHz for typical operation)", 8 DEF "Output voltage scaling (Low = nominal, High = nominal + 5%)", 9 SS/TR "Soft-start / tracking pin. An external capacitor connected to this pin sets the internal voltage-reference rise SS/TR 9 I time. It can be used for tracking and sequencing.", 10 AVIN "Supply voltage for control circuitry. Connect to same source as PVIN.", 11 PVIN "Supply voltage for power stage. Connect to same source as AVIN.", 12 PVIN "Supply voltage for power stage. Connect to same source as AVIN.", 13 EN "Enable input (High = enabled, Low = disabled)", 14 VOS "Output-voltage sense pin and connection for the control loop circuitry.", 15 PGND "Power ground.", 16 PGND "Power ground.", 17 EP "Exposed pad."

## TPS62162DSG8
designator U?, comment TPS62162
IC Buck 1A TI Fix 3.3V
footprint SON-8 (SON, 8-Leads, Body 2x2mm, Pitch 0.5mm, Thermal Pad 1.6x0.9mm, TI Recommended)
pins: 1 PGND (power) "Power ground", 2 VIN (power) "Supply voltage", 3 EN "Enable input (High = enabled, Low = disabled)", 4 AGND (power) "Analog Ground", 5 FB "Voltage feedback of adjustable version. Connect resistive voltage divider to this pin. It is recommended to connect FB to AGND on fixed output voltage versions for improved thermal performance.", 6 VOS "Output voltage sense pin and connection for the control loop circuitry.", 7 SW (power) "Switch node, which is connected to the internal MOSFET switches.Connect inductor between SW and output capacitor.", 8 PG (hiz) "Output power good (High = VOUT ready, Low = VOUT below nominal regulation) ; open drain (requires pull-up resistor; goes high impedance, when device is switched off)", 9 EP (power) "Must be connected to AGND. Must be soldered to achieve appropriate power dissipation and mechanical Thermal Pad reliability."

## TPS73633DRBR
designator U?
IC REG LINEAR 3.3V 400MA 8SON
footprint VSON-8 (SON, 8-Leads, Body 3x3mm, Pitch 0.65mm, Thermal Pad 1.50 x 3.8mm)
pins: 1 OUT "Switch node, which is connected to the internal MOSFET switches. Connect inductor between SW and output capacitor.", 3 NR "Output-voltage sense pin and connection for the control loop circuitry.", 4 GND "Supply voltage for control circuitry. Connect to same source as PVIN.", 5 EN "Supply voltage for power stage. Connect to same source as AVIN.", 8 IN "Supply voltage for power stage. Connect to same source as AVIN.", 9 GND "Enable input (High = enabled, Low = disabled)"

## TPSA106K010R0900
designator C?  value 10uF  Voltage: 10V  (hidden comment: *)
CAP TANT 10UF 10% 10V 1206; Model: TPSA106K010R0900
footprint TPSA106K010R1800 (Molded, 2-Leads, Body 3.4x1.8mm, IPC Medium Density(AVX))
pins: 1, 2

## TRANS NPN TO-92
designator VT?, comment 2N3904
footprint TO-92 (TO, Flat Index; 3 In-Line, Axial Leads; Body Dia. 4.7mm; Lead Dia. 0.56 mm (max))
pins: 1 E, 2 B, 3 C

## TRANS PNP TO-92
designator VT?, comment 2N3906
footprint TO-92 (TO, Flat Index; 3 In-Line, Axial Leads; Body Dia. 4.7mm; Lead Dia. 0.56 mm (max))
pins: 1 E, 2 B, 3 C

## TRANSFORMER TP-115
designator *
footprint ТП-115
pins: 1, 4, 8, 9, 10

## TRIAS
designator VS?, comment КУ208Г
pins: 1 K, 2 A, 3 IN

## TS431
designator U?
IC VREF SHUNT ADJ SOT23-5
footprint SOT-23-5 (SOT23, 5-Leads, Body 3.05x1.75mm, Pitch 0.95mm, IPC Medium Density)
pins: 3 K, 4, 5 A

## USB-B
designator USB
SMT Socket
footprint USB-Type-B (Through Hole, 6-Leads, Body 12.2x16mm)
pins: 1 VBUS, 2 D-, 3 D+, 4 GND, MH1, MH2

## USB-Micro B
designator XS?, comment TE-1981568
SMT Socket
footprint TECO-1981568-5_V (SMD, 5-Leads, Body 8x5.9mm, Pitch 0.65mm)
pins: 1 VBUS, 2 D-, 3 D+, 4 ID, 5 GND, 6 SHLD1, 7 SHLD2, 8 SHLD3, 9 SHLD4, 10 SHLD5, 11 SHLD6

## Zener diode
designator VD?  (value not drawn)
Symbol
pins: 1 A, 2 K

## КТ315Б
designator VT?
NPN Transistor
footprint Trans-KT13
pins: 1 E, 2 C, 3 B

## КТ361Б
designator VT?
NPN Trans
footprint Trans-KT13
pins: 1 E, 2 C, 3 B

## КТ972Б
designator VT?
NPN 45V 2A
footprint ONSC-TO-126ML-3-77AC (FM, 3-Leads, Body 8.2x3.5mm, Pitch 2.4mm)
pins: 1 E, 2 C, 3 B

## КТ973Б
designator VT?
PNP 45V 2A
footprint ONSC-TO-126ML-3-77AC (FM, 3-Leads, Body 8.2x3.5mm, Pitch 2.4mm)
pins: 1 E, 2 C, 3 B